# Altium footprint library dsPIC Click_1.PcbLib: 24 footprints (part 1 of 2)
Each footprint in its own frame and in the unit in brackets; x right, y up, seen from the top. Pads: shape width x height; smd on the part's side, far side on the other; paste and mask are expansions set on the pad; w line width, h text height; cw(c..) or ccw(c..) is an arc to the next point about the centre after c.
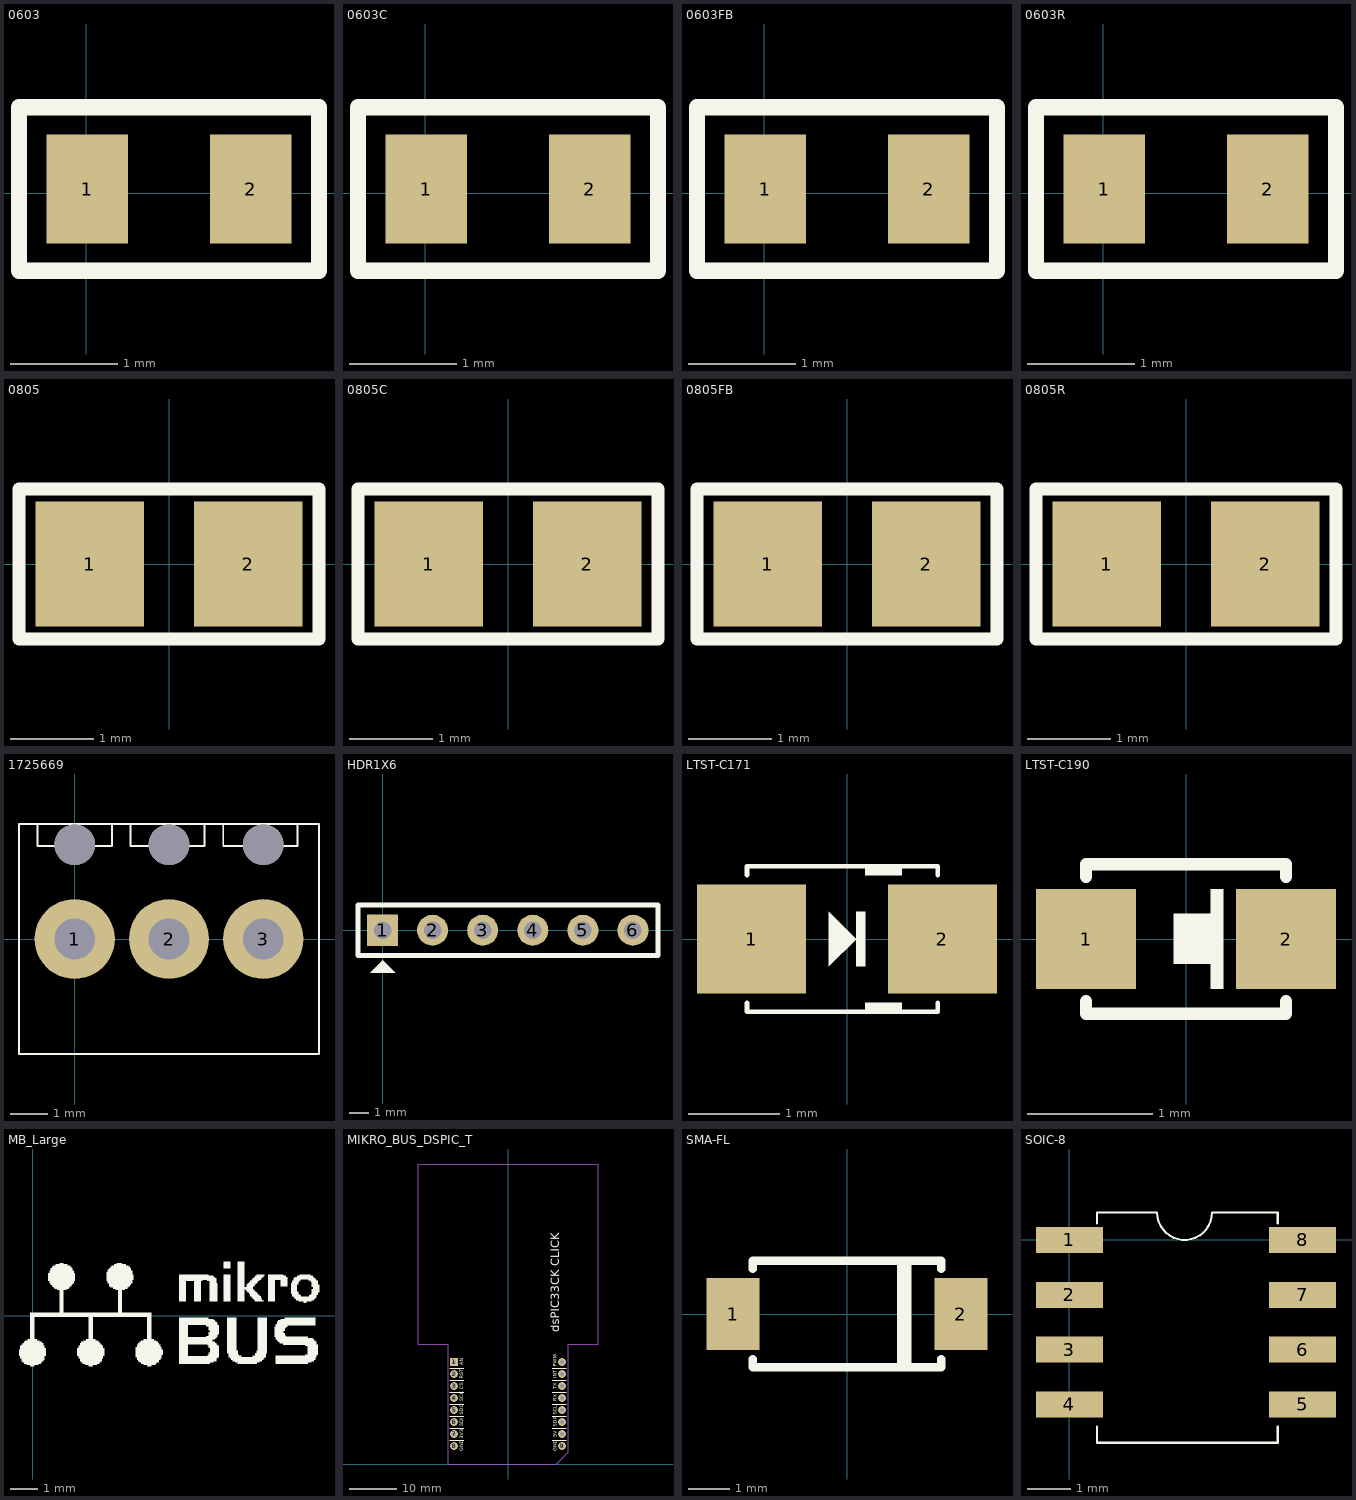
[diagram p0: the footprints below, top view; thin cyan lines are the x and y axes]

## 0603 [mil]
height 751.97
pads (2):
  rect 30x40 smd: 1(0.42,1.6) 2(60.42,1.6)
Top Overlay:
  lines w6: -24.57,-28.4 -24.57,31.6 85.42,31.6 85.42,-28.4 -24.57,-28.4
3D body: height 17.72, standoff 0, extent -1.97,-15.75 61.03,15.74

## 0603C [mil] "Capacitor"
height 751.97
pads (2):
  rect 30x40 smd: 1(0.42,1.6) 2(60.42,1.6)
Top Overlay:
  lines w6: -24.57,-28.4 85.42,-28.4 85.42,31.6 -24.57,31.6 -24.57,-28.4
3D body: height 31.5, standoff 0, extent -1.97,-14.76 61.03,16.73

## 0603FB [mil] "Ferrite Bead"
height 751.97
pads (2):
  rect 30x40 smd: 1(0.42,1.6) 2(60.42,1.6)
Top Overlay:
  lines w6: -24.57,-28.4 -24.57,31.6 85.42,31.6 85.42,-28.4 -24.57,-28.4
3D body: height 31.5, standoff 0, extent -1.96,-15.74 61.03,15.75

## 0603R [mil] "Resistor"
height 751.97
pads (2):
  rect 30x40 smd: 1(0.42,1.6) 2(60.42,1.6)
Top Overlay:
  lines w6: -24.57,-28.4 85.42,-28.4 85.42,31.6 -24.57,31.6 -24.57,-28.4
3D body: height 17.72, standoff 0, extent -1.97,-15.75 61.03,15.74

## 0805 [mm]
height 0.45
pads (2):
  rect 1.3x1.5 smd: 1(-0.95,0) 2(0.95,0)
Top Overlay:
  lines w0.152: -1.8,-0.9 1.8,-0.9 1.8,0.9 -1.8,0.9 -1.8,-0.9

## 0805C [mm] "Capacitor"
height 0.45
pads (2):
  rect 1.3x1.5 smd: 1(-0.95,0) 2(0.95,0)
Top Overlay:
  lines w0.152: -1.8,-0.9 -1.8,0.9 1.8,0.9 1.8,-0.9 -1.8,-0.9
3D body: height 1.25, standoff 0, extent -1,-0.625 1,0.625

## 0805FB [mm] "Ferrite Bead"
height 0.45
pads (2):
  rect 1.3x1.5 smd: 1(-0.95,0) 2(0.95,0)
Top Overlay:
  lines w0.152: -1.8,-0.9 -1.8,0.9 1.8,0.9 1.8,-0.9 -1.8,-0.9
3D body: height 1.25, standoff 0, extent -1,-0.625 1,0.625

## 0805R [mm] "Resistor"
height 0.45
pads (2):
  rect 1.3x1.5 smd: 1(-0.95,0) 2(0.95,0)
Top Overlay:
  lines w0.152: -1.8,-0.9 1.8,-0.9 1.8,0.9 -1.8,0.9 -1.8,-0.9
3D body: height 0.45, standoff 0, extent -1,-0.6 1,0.6

## 1725669 [mm] "Connector; Terminal; 3 Position, 2.45mm"
height 3.5
pads (6):
  round 2.159 hole 1.1: 1(0,0) 2(2.54,0) 3(5.08,0)
  round 1.1 hole 1.1 unplated mask+0.051: ""(0,2.54) ""(2.54,2.54) ""(5.08,2.54)
Top Overlay:
  lines w0.05: -1,3.1 -1,2.5 1,2.5 1,3.1 ; 1.5,3.1 1.5,2.5 3.5,2.5 3.5,3.1 ; 4,3.1 4,2.5 6,2.5 6,3.1 ; -1.5,-3.1 -1.5,3.1 6.58,3.1 6.58,-3.1 -1.5,-3.1
3D body: height 8.5, standoff -3.5, extent -1.52,-3.125 6.62,3.075

## HDR1X6 [mil]
height 751.97
pads (6):
  rect 62x62 hole 35: 1(0,0)
  round 62 hole 35: 2(100,0) 3(200,0) 4(300,0) 5(400,0) 6(500,0)
Top Overlay:
  region: 0,-60 -25,-85 25,-85
  lines w10: -49,-50 -49,50 550,50 550,-50 -49,-50
3D body: height 336.22, standoff -118.11, extent -50,-49.99 550,50.01

## LTST-C171 [mm] "led, 0805"
height 0.8
pads (2):
  rect 1.2x1.2 smd: 1(-1.05,0) 2(1.05,0)
Top Overlay:
  region: -0.2,0.3 -0.2,-0.3 0.1,0 0.1,-0.3 0.2,-0.3 0.2,0.3 0.1,0.3 0.1,0
  region: 0.2,0.8 0.6,0.8 0.6,0.7 0.2,0.7
  region: 0.2,-0.7 0.6,-0.7 0.6,-0.8 0.2,-0.8
  lines w0.05: -1.1,-0.7 -1.1,-0.8 1,-0.8 1,-0.7 ; -1.1,0.7 -1.1,0.8 1,0.8 1,0.7
3D body: height 1.1, standoff 0, extent -1,-0.625 1,0.625

## LTST-C190 [mm]
height 0.8
pads (2):
  rect 0.8x0.8 smd: 1(-0.8,0) 2(0.8,0)
Top Overlay:
  region: -0.1,0.2 -0.1,-0.2 0.2,-0.2 0.2,-0.4 0.3,-0.4 0.3,0.4 0.2,0.4 0.2,0.2
  lines w0.1: -0.8,-0.5 -0.8,-0.6 0.8,-0.6 0.8,-0.5 ; -0.8,0.5 -0.8,0.6 0.8,0.6 0.8,0.5
3D body: height 1.1, standoff 0, extent -0.8,-0.4 0.8,0.4

## MB_Large [mm]
height 2.4
Top Overlay:
  drawing of 10 lines, arcs and shapes, not listed

## MIKRO_BUS_DSPIC_T [mil] "Mikro Bus Click - T-Shaped"
height 47.24
pads (16):
  rect 65x65 hole 35: 1(-450,850)
  round 65 hole 35: 2(-450,750) 3(-450,650) 4(-450,550) 5(-450,450) 6(-450,350) 7(-450,250) 8(-450,150) 9(450,150) 10(450,250) 11(450,350) 12(450,450) 13(450,550) 14(450,650) 15(450,750) 16(450,850)
Top Overlay:
  lines w8: -485,200 -370,200 ; -485,300 -370,300 ; -485,400 -370,400 ; -485,500 -370,500 ; -485,600 -370,600 ; -485,700 -370,700 ; -485,800 -370,800 ; 370,200 485,200 ; 370,300 485,300 ; 370,400 485,400 ; 370,500 485,500 ; 370,600 485,600 ; 370,700 485,700 ; 370,800 485,800
  text "dsPIC33CK CLICK" at 450,1100 h120
  text "GND" at -375,107 h30
  text "3V3" at -375,210 h30
  text "5V" at 405,225 h30
  text "SDI" at -375,315 h30
  text "AN" at -375,825 h30
  text "SCK" at -375,525 h30
  text "INT" at 405,715 h30
  text "RST" at -375,710 h30
  text "SDO" at -375,410 h30
  text "GND" at 405,107 h30
  text "SDA" at 405,310 h30
  text "SCL" at 405,410 h30
  text "RX" at 405,525 h30
  text "TX" at 405,625 h30
  text "CS" at -375,625 h30
  text "PWM" at 405,810 h30
Bottom Overlay:
  lines w8: -497,100 -400,100 -400,900 -497,900 ; 497,100 400,100 400,900 497,900
  text "SCL" at 360,430 h35
  text "INT" at 360,730 h35
  text "SDI" at -280,330 h35
  text "CS" at -305,630 h35
  text "GND" at -267,130 h35
  text "3V3" at -270,230 h35
  text "SDO" at -270,430 h35
  text "SDA" at 360,330 h35
  text "RST" at -270,730 h35
  text "PWM" at 360,830 h35
  text "GND" at 360,130 h35
  text "5V" at 360,230 h35
  text "RX" at 360,530 h35
  text "TX" at 360,630 h35
  text "AN" at -300,830 h35
  text "SCK" at -270,530 h35
Mechanical 15:
  lines w4: -750,1000 -500,1000 -500,0 397.64,0 401.57,0 500,98.43 500,1000 750,1000 750,2500 -750,2500 -750,1000
3D body: height 98.43, standoff -355.91, extent -500,100 -400,900
3D body: height 98.43, standoff -355.91, extent 400,100 500,900

## SMA-FL [mm]
height 1.4
pads (2):
  rect 1.3x1.76 smd: 1(-2.78,0) 2(2.78,0)
Top Overlay:
  lines w0.152: 1.3,-1.3 1.3,1.3 ; 1.4,-1.3 1.4,1.2 ; 1.5,-1.3 1.5,1.3
  lines w0.2: -2.3,-1.1 -2.3,-1.3 2.3,-1.3 2.3,-1.1 ; -2.3,1.1 -2.3,1.3 2.3,1.3 2.3,1.1
3D body: height 2.22, standoff 0, extent -2.5,-1.35 2.5,1.35

## SOIC-8 [mm]
pads (8):
  rect 1.55x0.6 smd: 1(0,0) 2(0,-1.27) 3(0,-2.54) 4(0,-3.81) 5(5.4,-3.81) 6(5.4,-2.54) 7(5.4,-1.27) 8(5.4,0)
Top Overlay:
  lines w0.05: 0.635,-4.318 0.635,-4.699 4.826,-4.699 4.826,-4.318 ; 0.635,0.381 0.635,0.635 2.032,0.635 ccw(c2.667,0.635) 3.302,0.635 4.826,0.635 4.826,0.381
3D body: height 1.75, standoff 0, extent -0.5,-4.45 5.5,0.45